# Altium footprint library Capacitor_SMD.PcbLib: 103 footprints (part 2 of 7)
Each footprint in its own frame and in the unit in brackets; x right, y up, seen from the top. Pads: shape width x height; smd on the part's side, far side on the other; paste and mask are expansions set on the pad; w line width, h text height; cw(c..) or ccw(c..) is an arc to the next point about the centre after c.
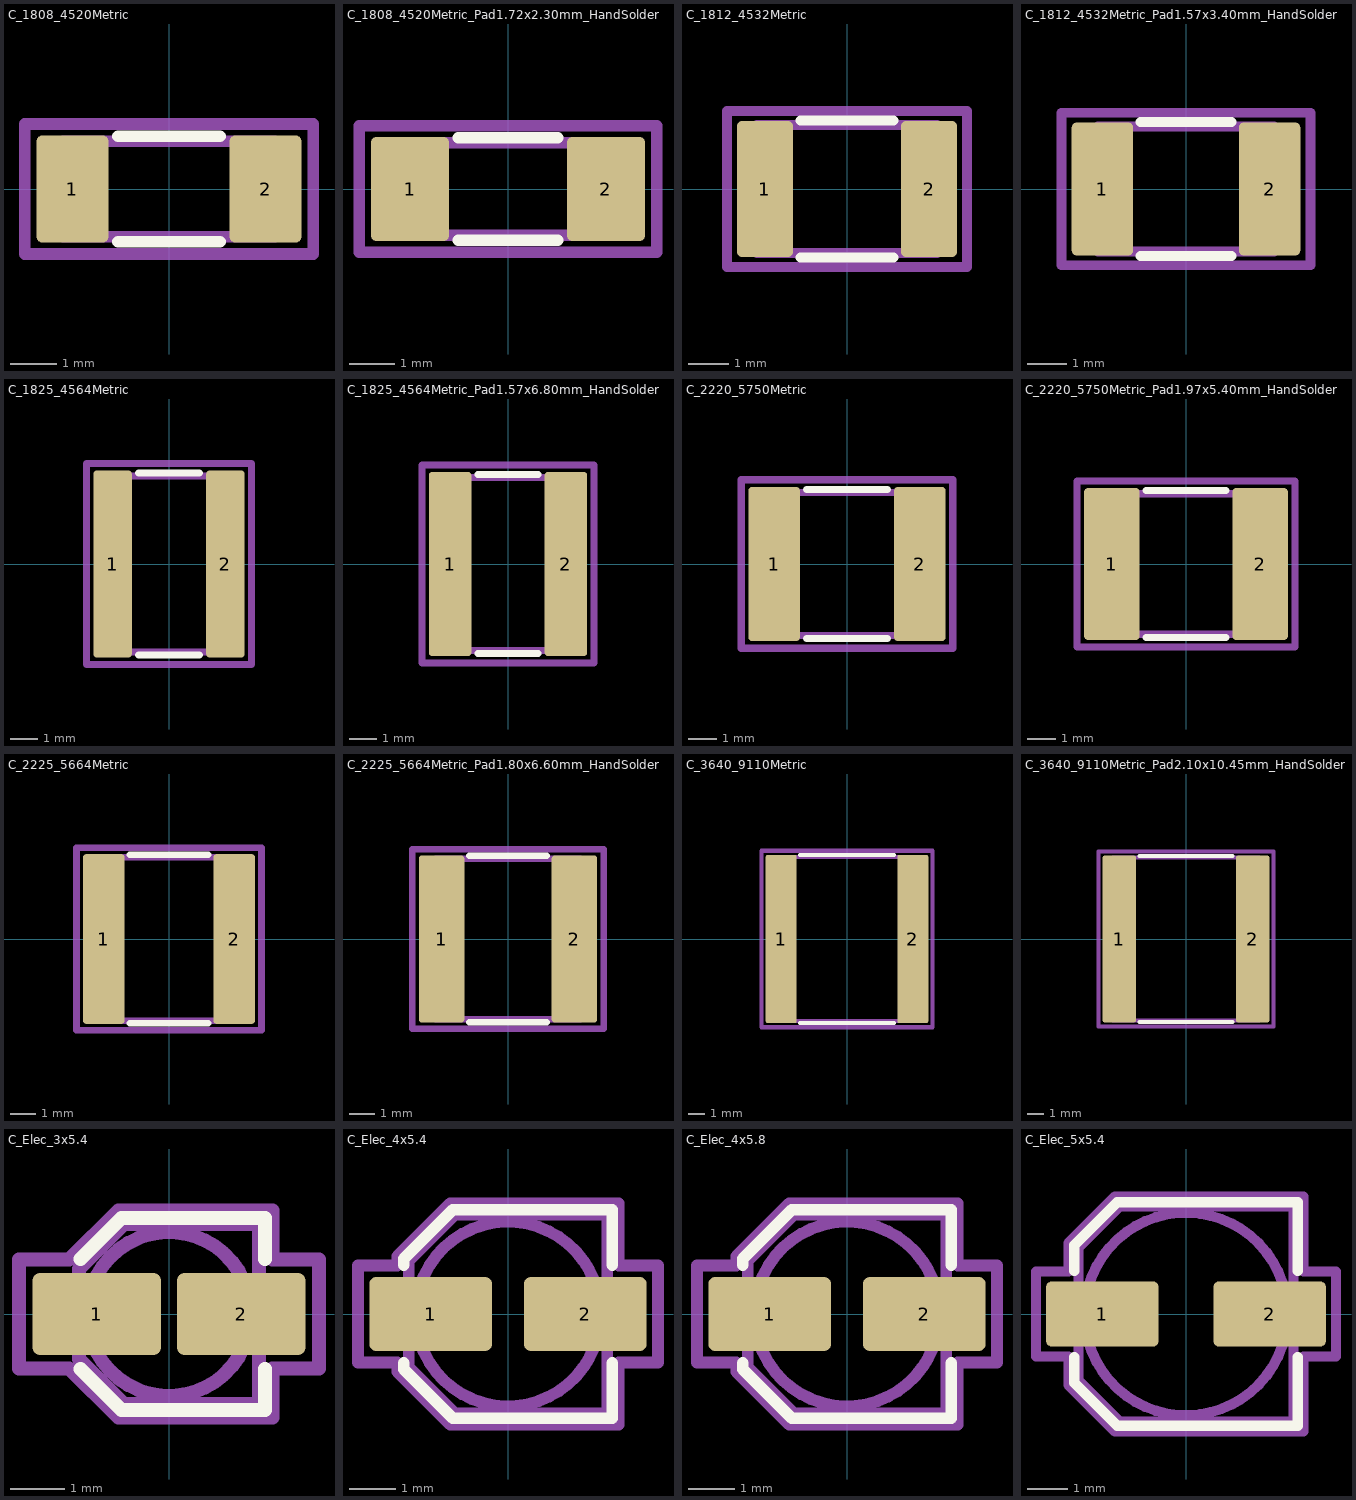
[diagram p1: the footprints below, top view; thin cyan lines are the x and y axes]

## C_1808_4520Metric [mm]
pads (2):
  rrect16% 1.55x2.3 smd: 1(-2.075,0) 2(2.075,0)
F.SilkS:
  lines w0.254: -1.097,-1.135 1.097,-1.135 ; -1.097,1.135 1.097,1.135
F.CrtYd:
  lines w0.254: -3.1,-1.4 -3.1,1.4 3.1,1.4 3.1,-1.4 -3.1,-1.4
F.Fab:
  lines w0.254: -2.275,-1.025 -2.275,1.025 2.275,1.025 2.275,-1.025 -2.275,-1.025
  text "'.Designator'" at -4.047,-0.84 h1

## C_1808_4520Metric_Pad1.72x2.30mm_HandSolder [mm]
pads (2):
  rrect14% 1.725x2.3 smd: 1(-2.163,0) 2(2.163,0)
F.SilkS:
  lines w0.254: -1.097,-1.135 1.097,-1.135 ; -1.097,1.135 1.097,1.135
F.CrtYd:
  lines w0.254: -3.28,-1.4 -3.28,1.4 3.28,1.4 3.28,-1.4 -3.28,-1.4
F.Fab:
  lines w0.254: -2.275,-1.025 -2.275,1.025 2.275,1.025 2.275,-1.025 -2.275,-1.025
  text "'.Designator'" at -4.047,-0.84 h1

## C_1812_4532Metric [mm]
pads (2):
  rrect18% 1.4x3.4 smd: 1(-2.05,0) 2(2.05,0)
F.SilkS:
  lines w0.254: -1.161,-1.71 1.161,-1.71 ; -1.161,1.71 1.161,1.71
F.CrtYd:
  lines w0.254: -3,-1.95 -3,1.95 3,1.95 3,-1.95 -3,-1.95
F.Fab:
  lines w0.254: -2.25,-1.6 -2.25,1.6 2.25,1.6 2.25,-1.6 -2.25,-1.6
  text "'.Designator'" at -4.047,-0.84 h1

## C_1812_4532Metric_Pad1.57x3.40mm_HandSolder [mm]
pads (2):
  rrect16% 1.575x3.4 smd: 1(-2.137,0) 2(2.137,0)
F.SilkS:
  lines w0.254: -1.161,-1.71 1.161,-1.71 ; -1.161,1.71 1.161,1.71
F.CrtYd:
  lines w0.254: -3.18,-1.95 -3.18,1.95 3.18,1.95 3.18,-1.95 -3.18,-1.95
F.Fab:
  lines w0.254: -2.25,-1.6 -2.25,1.6 2.25,1.6 2.25,-1.6 -2.25,-1.6
  text "'.Designator'" at -4.047,-0.84 h1

## C_1825_4564Metric [mm]
pads (2):
  rrect18% 1.4x6.8 smd: 1(-2.05,0) 2(2.05,0)
F.SilkS:
  lines w0.254: -1.116,-3.31 1.116,-3.31 ; -1.116,3.31 1.116,3.31
F.CrtYd:
  lines w0.254: -3,-3.65 -3,3.65 3,3.65 3,-3.65 -3,-3.65
F.Fab:
  lines w0.254: -2.25,-3.2 -2.25,3.2 2.25,3.2 2.25,-3.2 -2.25,-3.2
  text "'.Designator'" at -4.047,-0.84 h1

## C_1825_4564Metric_Pad1.57x6.80mm_HandSolder [mm]
pads (2):
  rrect16% 1.575x6.8 smd: 1(-2.137,0) 2(2.137,0)
F.SilkS:
  lines w0.254: -1.116,-3.31 1.116,-3.31 ; -1.116,3.31 1.116,3.31
F.CrtYd:
  lines w0.254: -3.18,-3.65 -3.18,3.65 3.18,3.65 3.18,-3.65 -3.18,-3.65
F.Fab:
  lines w0.254: -2.25,-3.2 -2.25,3.2 2.25,3.2 2.25,-3.2 -2.25,-3.2
  text "'.Designator'" at -4.047,-0.84 h1

## C_2220_5750Metric [mm]
pads (2):
  rrect14% 1.8x5.4 smd: 1(-2.55,0) 2(2.55,0)
F.SilkS:
  lines w0.254: -1.416,-2.61 1.416,-2.61 ; -1.416,2.61 1.416,2.61
F.CrtYd:
  lines w0.254: -3.7,-2.95 -3.7,2.95 3.7,2.95 3.7,-2.95 -3.7,-2.95
F.Fab:
  lines w0.254: -2.85,-2.5 -2.85,2.5 2.85,2.5 2.85,-2.5 -2.85,-2.5
  text "'.Designator'" at -4.047,-0.84 h1

## C_2220_5750Metric_Pad1.97x5.40mm_HandSolder [mm]
pads (2):
  rrect13% 1.975x5.4 smd: 1(-2.638,0) 2(2.638,0)
F.SilkS:
  lines w0.254: -1.416,-2.61 1.416,-2.61 ; -1.416,2.61 1.416,2.61
F.CrtYd:
  lines w0.254: -3.88,-2.95 -3.88,2.95 3.88,2.95 3.88,-2.95 -3.88,-2.95
F.Fab:
  lines w0.254: -2.85,-2.5 -2.85,2.5 2.85,2.5 2.85,-2.5 -2.85,-2.5
  text "'.Designator'" at -4.047,-0.84 h1

## C_2225_5664Metric [mm]
pads (2):
  rrect15% 1.625x6.6 smd: 1(-2.538,0) 2(2.538,0)
F.SilkS:
  lines w0.254: -1.522,-3.285 1.522,-3.285 ; -1.522,3.285 1.522,3.285
F.CrtYd:
  lines w0.254: -3.6,-3.55 -3.6,3.55 3.6,3.55 3.6,-3.55 -3.6,-3.55
F.Fab:
  lines w0.254: -2.86,-3.175 -2.86,3.175 2.86,3.175 2.86,-3.175 -2.86,-3.175
  text "'.Designator'" at -4.047,-0.84 h1

## C_2225_5664Metric_Pad1.80x6.60mm_HandSolder [mm]
pads (2):
  rrect14% 1.8x6.6 smd: 1(-2.625,0) 2(2.625,0)
F.SilkS:
  lines w0.254: -1.522,-3.285 1.522,-3.285 ; -1.522,3.285 1.522,3.285
F.CrtYd:
  lines w0.254: -3.78,-3.55 -3.78,3.55 3.78,3.55 3.78,-3.55 -3.78,-3.55
F.Fab:
  lines w0.254: -2.86,-3.175 -2.86,3.175 2.86,3.175 2.86,-3.175 -2.86,-3.175
  text "'.Designator'" at -4.047,-0.84 h1

## C_3640_9110Metric [mm]
pads (2):
  rrect13% 1.925x10.45 smd: 1(-4.088,0) 2(4.088,0)
F.SilkS:
  lines w0.254: -2.922,-5.21 2.922,-5.21 ; -2.922,5.21 2.922,5.21
F.CrtYd:
  lines w0.254: -5.3,-5.48 -5.3,5.48 5.3,5.48 5.3,-5.48 -5.3,-5.48
F.Fab:
  lines w0.254: -4.57,-5.1 -4.57,5.1 4.57,5.1 4.57,-5.1 -4.57,-5.1
  text "'.Designator'" at -4.047,-0.84 h1

## C_3640_9110Metric_Pad2.10x10.45mm_HandSolder [mm]
pads (2):
  rrect12% 2.1x10.45 smd: 1(-4.175,0) 2(4.175,0)
F.SilkS:
  lines w0.254: -2.922,-5.21 2.922,-5.21 ; -2.922,5.21 2.922,5.21
F.CrtYd:
  lines w0.254: -5.48,-5.48 -5.48,5.48 5.48,5.48 5.48,-5.48 -5.48,-5.48
F.Fab:
  lines w0.254: -4.57,-5.1 -4.57,5.1 4.57,5.1 4.57,-5.1 -4.57,-5.1
  text "'.Designator'" at -4.047,-0.84 h1

## C_Elec_3x5.4 [mm]
pads (2):
  rrect17% 2.35x1.5 smd: 1(-1.325,0) 2(1.325,0)
F.SilkS:
  lines w0.254: -1.621,-1.01 -0.871,-1.76 1.76,-1.76 1.76,-1.01 ; -1.621,1.01 -0.871,1.76 1.76,1.76 1.76,1.01
F.CrtYd:
  lines w0.254: -2.75,-1 -2.75,1 -1.83,1 -0.93,1.9 1.9,1.9 1.9,1 2.75,1 2.75,-1 1.9,-1 1.9,-1.9 -0.93,-1.9 -1.83,-1 -2.75,-1
F.Fab:
  circle w0.254: c0,0 r1.5
  lines w0.254: -1.65,-0.825 -1.65,0.825 -0.825,1.65 1.65,1.65 1.65,-1.65 -0.825,-1.65 -1.65,-0.825
  text "'.Designator'" at -2.428,-0.504 h0.6

## C_Elec_4x5.4 [mm]
pads (2):
  rrect16% 2.65x1.6 smd: 1(-1.675,0) 2(1.675,0)
F.SilkS:
  lines w0.254: -2.26,-1.06 -2.26,-1.196 -1.196,-2.26 2.26,-2.26 2.26,-1.06 ; -2.26,1.06 -2.26,1.196 -1.196,2.26 2.26,2.26 2.26,1.06
F.CrtYd:
  lines w0.254: -3.25,-1.05 -3.25,1.05 -2.4,1.05 -2.4,1.25 -1.25,2.4 2.4,2.4 2.4,1.05 3.25,1.05 3.25,-1.05 2.4,-1.05 2.4,-2.4 -1.25,-2.4 -2.4,-1.25 -2.4,-1.05 -3.25,-1.05
F.Fab:
  circle w0.254: c0,0 r2
  lines w0.254: -2.15,-1.15 -2.15,1.15 -1.15,2.15 2.15,2.15 2.15,-2.15 -1.15,-2.15 -2.15,-1.15
  text "'.Designator'" at -3.237,-0.672 h0.8

## C_Elec_4x5.8 [mm]
pads (2):
  rrect16% 2.65x1.6 smd: 1(-1.675,0) 2(1.675,0)
F.SilkS:
  lines w0.254: -2.26,-1.06 -2.26,-1.196 -1.196,-2.26 2.26,-2.26 2.26,-1.06 ; -2.26,1.06 -2.26,1.196 -1.196,2.26 2.26,2.26 2.26,1.06
F.CrtYd:
  lines w0.254: -3.25,-1.05 -3.25,1.05 -2.4,1.05 -2.4,1.25 -1.25,2.4 2.4,2.4 2.4,1.05 3.25,1.05 3.25,-1.05 2.4,-1.05 2.4,-2.4 -1.25,-2.4 -2.4,-1.25 -2.4,-1.05 -3.25,-1.05
F.Fab:
  circle w0.254: c0,0 r2
  lines w0.254: -2.15,-1.15 -2.15,1.15 -1.15,2.15 2.15,2.15 2.15,-2.15 -1.15,-2.15 -2.15,-1.15
  text "'.Designator'" at -3.237,-0.672 h0.8

## C_Elec_5x5.4 [mm]
pads (2):
  rrect16% 2.775x1.6 smd: 1(-2.063,0) 2(2.063,0)
F.SilkS:
  lines w0.254: -2.76,-1.06 -2.76,-1.696 -1.696,-2.76 2.76,-2.76 2.76,-1.06 ; -2.76,1.06 -2.76,1.696 -1.696,2.76 2.76,2.76 2.76,1.06
F.CrtYd:
  lines w0.254: -3.7,-1.05 -3.7,1.05 -2.9,1.05 -2.9,1.75 -1.75,2.9 2.9,2.9 2.9,1.05 3.7,1.05 3.7,-1.05 2.9,-1.05 2.9,-2.9 -1.75,-2.9 -2.9,-1.75 -2.9,-1.05 -3.7,-1.05
F.Fab:
  circle w0.254: c0,0 r2.5
  lines w0.254: -2.65,-1.65 -2.65,1.65 -1.65,2.65 2.65,2.65 2.65,-2.65 -1.65,-2.65 -2.65,-1.65
  text "'.Designator'" at -4.047,-0.84 h1